# EAGLE library part REG103 (library alexwhittemore-eagle)
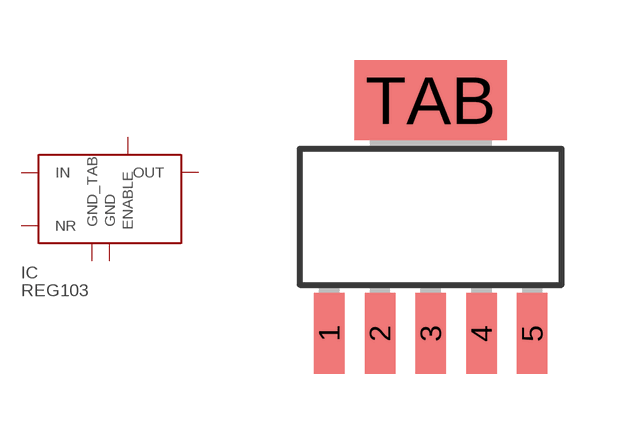
[diagram p9: symbol with the pads of SOT223-5; footprint SOT223-5]

Designator prefix IC

## REG103GA  [SOT223-5]
1  IN
2  OUT
3  GND
4  NR
5  ENABLE
TAB  GND_TAB

## Footprint SOT223-5 (pad centres in mm)
smd 0.762 x 2.032: 1 -2.54,-2.54; 2 -1.27,-2.54; 3 0,-2.54; 4 1.27,-2.54; 5 2.54,-2.54
smd 3.81 x 2.007: TAB 0,3.302